# Altium schematic symbol library Schlib1.SchLib: 20 symbols
Pins are listed as number, name and electrical type; pins without a type are passive.

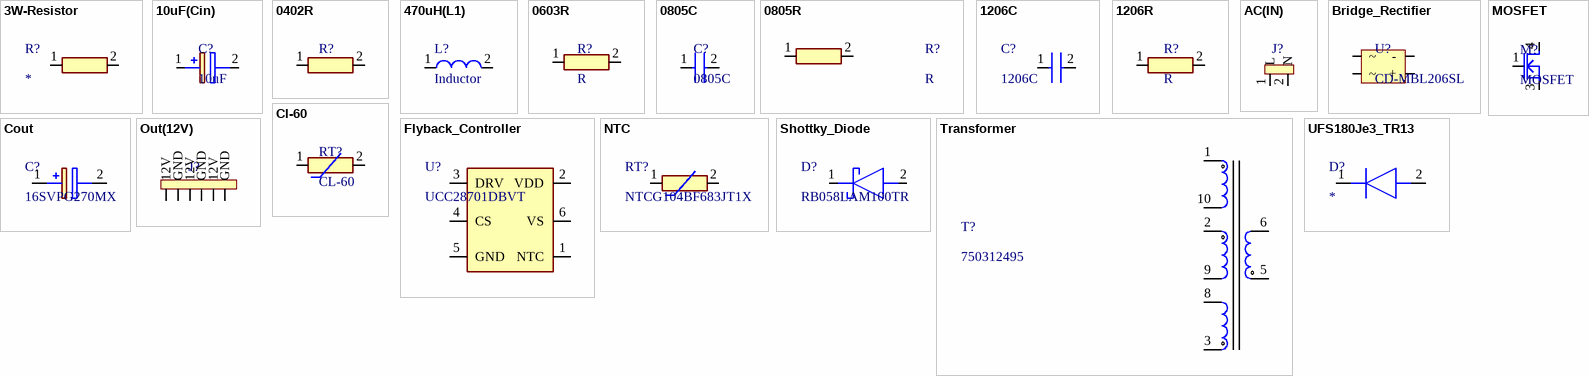
[diagram p0: symbols 3W-Resistor to UFS180Je3_TR13]

## 3W-Resistor
designator R?
Resistor; Manufacturer_Name: Vishay; Manufacturer_Part_Number: PR03000206202JAC00; Datasheet Link: https://www.vishay.com/docs/28729/pr010203.pdf; Mouser Part Number: 594-5093NW62K00J; Mouser Price/Stock: https://www.mouser.co.uk/ProductDetail/Vishay-BC-Components/PR03000206202JAC00?qs=LCMWAU1DZcxovZq7UzVsNA%3D%3D; Arrow Part Number: PR03000206202JAC00; Arrow Price/Stock: https://www.arrow.com/en/products/pr03000206202jac00/vishay
footprint 3W-Resistor
pins: 1, 2

## 10uF(Cin)
designator C?, comment 10uF
Alum. Electrolytic Cap 10µF 400V 10mm Radial WCAP-AT1H; Lifetime 10000h +105°C; Manufacturer: Wurth Electronics; Manufacturer Part Number: 860241375002; Polarity: Polar; Ripple Current: 274mA; Life (Hours): 10000Hour; Tolerance: 20%; Supplier 1: Mouser; RoHS: Yes; Category: Aluminum Electrolytic Capacitors; Stock 1: 2312; Pricing 1: 1=0.88000, 10=0.87700, 50=0.74800, 100=0.65100, 1000=0.57900, 10000=0.57900 (USD); Mount: Through Hole; Case/Package: Radial; Min Operating Temperature: -25°C; Max Operating Temperature: 105°C; Package Quantity: 500; Packaging: Tape and Reel; Capacitance: 10uF; Voltage Rating: 400V; Voltage Rating (DC): 400V; Diameter: 10mm; Height: 16mm; Lead Pitch: 0.197inch; Height - Seated (Max): 0.688inch; REACH SVHC: Unknown; RoHS Compliant: Yes; ComponentLink1URL: http://www.farnell.com/datasheets/1958429.pdf?src-supplier=Farnell; ComponentLink1Description: http://www.farnell.com/datasheets/1958429.pdf?src-supplier=Farnell; ComponentLink2URL: http://katalog.we-online.de/pbs/datasheet/860241375002.pdf?src-supplier=Digi-Key; ComponentLink2Description: http://katalog.we-online.de/pbs/datasheet/860241375002.pdf?src-supplier=Digi-Key; ComponentLink3URL: http://www.farnell.com/datasheets/1958429.pdf?src-supplier=Element14; ComponentLink3Description: http://www.farnell.com/datasheets/1958429.pdf?src-supplier=Element14
footprint 10uF
pins: 1 +, 2 -

## 0402R
designator R?, comment R  (value not drawn)
footprint 0402R
pins: 1, 2

## 470uH(L1)
designator L?, comment Inductor
Inductor Power Shielded Wirewound 470uH 10% 1KHz 18Q-Factor Ferrite 0.18A 3.3Ohm DCR T/R; Manufacturer: Bourns; Manufacturer Part Number: SRR0604-471KL; Saturation Current: 220mA; Self Resonant Frequency: 6.5MHz; Q Factor: 18; Current Rating: 180mA; Current: 2.2A; DC Resistance (DCR): 3.3R; Supplier 1: Mouser; RoHS: Yes; Category: Fixed Inductors; Stock 1: 1611; Pricing 1: 1=0.93000, 10=0.67800, 50=0.67800, 100=0.62800, 1000=0.41200, 10000=0.38700 (USD); Mount: Surface Mount; Case/Package: Nonstandard; Core Material: Ferrite; Min Operating Temperature: -40°C; Max Operating Temperature: 125°C; Tolerance: 10%; Shielding: Shielded; Packaging: Tape and Reel; Package Quantity: 1000; Inductance: 470uH; Resistor Type: Wirewound; Test Frequency: 1kHz; Max DC Current: 180mA; Termination: SMD/SMT; DC Current: 180mA; Length: 6.5mm; Width: 6.5mm; Height: 4.8mm; Height - Seated (Max): 0.189inch; Depth: 6.7mm; Radiation Hardening: No; Military Standard: Not; ComponentLink1URL: https://datasheet.ciiva.com/29348/447222-da-01-en-induktivitaet-srr0604-471kl-470uh-0-22a-29348188.pdf?src-supplier=Conrad; ComponentLink1Description: https://datasheet.ciiva.com/29348/447222-da-01-en-induktivitaet-srr0604-471kl-470uh-0-22a-29348188.pdf?src-supplier=Conrad; ComponentLink2URL: https://datasheet.ciiva.com/6691/srr0604-6691703.pdf?src-supplier=Digi-Key; ComponentLink2Description: https://datasheet.ciiva.com/6691/srr0604-6691703.pdf?src-supplier=Digi-Key; ComponentLink3URL: https://datasheet.ciiva.com/6691/srr0604-6691705.pdf?src-supplier=Digi-Key; ComponentLink3Description: https://datasheet.ciiva.com/6691/srr0604-6691705.pdf?src-supplier=Digi-Key; ComponentLink4URL: https://datasheet.ciiva.com/6691/srr0604-6691708.pdf?src-supplier=Digi-Key; ComponentLink4Description: https://datasheet.ciiva.com/6691/srr0604-6691708.pdf?src-supplier=Digi-Key; ComponentLink5URL: https://datasheet.ciiva.com/8517/srr0604-8517198.pdf?src-supplier=Avnet; ComponentLink5Description: https://datasheet.ciiva.com/8517/srr0604-8517198.pdf?src-supplier=Avnet; ComponentLink6URL: https://datasheet.ciiva.com/31843/srr0604-31843470.pdf?src-supplier=Onlinecomponents.com; ComponentLink6Description: https://datasheet.ciiva.com/31843/srr0604-31843470.pdf?src-supplier=Onlinecomponents.com
footprint INDP125125X600N
pins: 1, 2

## 0603R
designator R?, comment R
footprint 0603R
pins: 1, 2

## 0805C
designator C?
footprint 0805C
pins: 1, 2

## 0805R
designator R?, comment R
footprint 0805R
pins: 1, 2

## 1206C
designator C?
Cap Ceramic 1uF 100V X7R 10% SMD 1206 125°C Embossed T/R; Manufacturer: Kyocera AVX; Manufacturer Part Number: 12061C105KAT4A; Supplier 1: Mouser; RoHS: Yes; Category: Ceramic Capacitors; Stock 1: 79379; Pricing 1: 1=0.49000, 10=0.23600, 50=0.23600, 100=0.20300, 1000=0.12800, 10000=0.10400 (USD); Case/Package: 1206; Dielectric: X7R; Voltage Rating (DC): 100V; Capacitance: 1uF; Tolerance: 10%; RoHS Compliant: Yes; ComponentLink1URL: http://datasheets.avx.com/X7RDielectric.pdf?src-supplier=Digi-Key; ComponentLink1Description: http://datasheets.avx.com/X7RDielectric.pdf?src-supplier=Digi-Key
footprint 1206C
pins: 1, 2

## 1206R
designator R?, comment R
footprint 1206R
pins: 1, 2

## AC(IN)
designator J?  (value not drawn)
footprint AC(IN)
pins: 1 L, 2 N

## Bridge_Rectifier
designator U?, comment CD-MBL206SL
DIO BR VRRM 600V 2A MBLS / Tape & Reel - 13" reel RoHS Compliant: Yes; Manufacturer: Bourns; Supplier 1: Mouser; Manufacturer Part Number: CD-MBL206SL; RoHS: Yes; Stock 1: 14176; Pricing 1: 1=0.45000, 10=0.39200, 50=0.39200, 100=0.29300, 1000=0.17800, 10000=0.13700 (USD); Mount: Surface Mount; Min Operating Temperature: -55°C; Max Operating Temperature: 175°C; Packaging: Cut Tape; Average Rectified Current: 2A; RoHS Compliant: Yes; ComponentLink1URL: http://www.farnell.com/datasheets/2176055.pdf?src-supplier=Farnell; ComponentLink1Description: http://www.farnell.com/datasheets/2176055.pdf?src-supplier=Farnell; ComponentLink2URL: http://www.farnell.com/datasheets/2176055.pdf?src-supplier=Element14; ComponentLink2Description: http://www.farnell.com/datasheets/2176055.pdf?src-supplier=Element14; ComponentLink3URL: https://www.bourns.com/docs/Product-Datasheets/cd-mbl2xxsl.pdf?src-supplier=Digi-Key; ComponentLink3Description: https://www.bourns.com/docs/Product-Datasheets/cd-mbl2xxsl.pdf?src-supplier=Digi-Key
footprint CD-MBL210S_1
pins: 1 +, 2 ~, 3 ~, 4 -

## Cl-60
designator RT?, comment CL-60
CL Series 10 Ohm ± 25 % 5 A Radial Uninsulated Leads Thermistor Disc; Manufacturer: Amphenol; Supplier 1: Mouser; Manufacturer Part Number: CL-60; RoHS: No; Category: Uncategorized; Stock 1: 5231; Pricing 1: 1=2.16000, 10=1.95000, 50=1.95000, 100=1.33000, 1000=0.97800, 10000=0.85800 (USD); ComponentLink1URL: https://datasheet.ciiva.com/29855/aas-920-325d-thermometrics-ntc-inrush-031814-web-29855691.pdf?src-supplier=Digi-Key; ComponentLink1Description: https://datasheet.ciiva.com/29855/aas-920-325d-thermometrics-ntc-inrush-031814-web-29855691.pdf?src-supplier=Digi-Key; ComponentLink2URL: https://datasheet.ciiva.com/31455/629282-31455967.pdf?src-supplier=Element14; ComponentLink2Description: https://datasheet.ciiva.com/31455/629282-31455967.pdf?src-supplier=Element14; ComponentLink3URL: https://datasheet.ciiva.com/46652/70181314-46652413.pdf?src-supplier=Allied+Electronics; ComponentLink3Description: https://datasheet.ciiva.com/46652/70181314-46652413.pdf?src-supplier=Allied+Electronics
footprint CL-60
pins: 1, 2

## Cout
designator C?, comment 16SVPG270MX
Capacitor Polarised; Manufacturer_Name: Panasonic; Datasheet Link: http://industrial.panasonic.com/cdbs/www-data/pdf/AAB8000/AAB8000C175.pdf; Height: 8mm; Manufacturer_Part_Number: 16SVPG270MX; Mouser Part Number: 667-16SVPG270MX; Mouser Price/Stock: https://www.mouser.co.uk/ProductDetail/Panasonic/16SVPG270MX?qs=XFmntM7Yc9fZM%2FbqBr2Fvw%3D%3D; Arrow Part Number: 16SVPG270MX; Arrow Price/Stock: https://www.arrow.com/en/products/16svpg270mx/panasonic?region=nac
footprint Cout
pins: 1 +, 2 -

## Flyback_Controller
designator U?, comment UCC28701DBVT
Integrated Circuit; Manufacturer_Name: Texas Instruments; Datasheet Link: http://www.ti.com/lit/gpn/ucc28701; Height: 1.45mm; Manufacturer_Part_Number: UCC28701DBVT; Mouser Part Number: 595-UCC28701DBVT; Mouser Price/Stock: https://www.mouser.co.uk/ProductDetail/Texas-Instruments/UCC28701DBVT?qs=rg6Iqu58vpU9cO7MIDHsMA%3D%3D; Arrow Part Number: UCC28701DBVT; Arrow Price/Stock: https://www.arrow.com/en/products/ucc28701dbvt/texas-instruments
footprint SOT95P280X145-6N
pins: 1 NTC, 2 VDD, 3 DRV, 4 CS, 5 GND, 6 VS

## MOSFET
designator M?
Single N-Channel 800 V 900 mOhm 15 nC CoolMOS Power Mosfet - DPAK; Manufacturer: Infineon; Manufacturer Part Number: IPD80R900P7ATMA1; Max Dual Supply Voltage: 800V; Continuous Drain Current (ID): 6A; Rds On Max: 900mR; Input Capacitance: 350pF; Max Power Dissipation: 45W; Frequency: 16MHz; Frequency Stability: 0.15%; Frequency Tolerance: 0.5%; Capacitance: 15pF; Impedance: 40R; Supplier 1: Mouser; RoHS: Yes; Category: MOSFETs; Stock 1: 130; Pricing 1: 1=1.85000, 10=1.67000, 50=1.67000, 100=1.30000, 1000=0.94000, 10000=0.93900 (USD); Mount: Surface Mount; Case/Package: TO-252-3; Min Operating Temperature: -55°C; Max Operating Temperature: 150°C; Drain to Source Voltage (Vdss): 800V; Resistor Type: Ceramic; Packaging: Cut Tape; Lead Free: Contains Lead; Halogen Free: Halogen Free; RoHS Compliant: Yes; ComponentLink1URL: https://www.infineon.com/dgdl/Infineon-IPD80R900P7-DS-v02_00-EN.pdf?fileId=5546d4625b3ca4ec015b4287da753ee9&src-supplier=Digi-Key; ComponentLink1Description: https://www.infineon.com/dgdl/Infineon-IPD80R900P7-DS-v02_00-EN.pdf?fileId=5546d4625b3ca4ec015b4287da753ee9&src-supplier=Digi-Key
footprint MOSFET (D-PAK, 3-Pads, Body 6.21x6.73mm (max), IPC High Density)
pins: 1 G, 3 S, 4 D

## NTC
designator RT?, comment NTCG104BF683JT1X
Thermistor; Manufacturer_Name: TDK; Datasheet Link: https://product.tdk.com/system/files/dam/doc/product/sensor/ntc/chip-ntc-thermistor/catalog/tpd_commercial_ntc-thermistor_ntcg_en.pdf; Height: 0.55mm; Manufacturer_Part_Number: NTCG104BF683JT1X; Mouser Part Number: 810-NTCG104BF683JT; Mouser Price/Stock: https://www.mouser.com/Search/Refine.aspx?Keyword=810-NTCG104BF683JT
footprint NTC
pins: 1, 2

## Out(12V)
designator J?, comment 12V  (value not drawn)
footprint 1x6P
pins: 1 GND, 2 12V, 3 GND, 4 12V, 5 GND, 6 12V

## Shottky_Diode
designator D?, comment RB058LAM100TR
Schottky Diode; Manufacturer_Name: ROHM Semiconductor; Datasheet Link: https://fscdn.rohm.com/en/products/databook/datasheet/discrete/diode/schottky_barrier/rb058lam100tr-e.pdf; Height: 1.05mm; Manufacturer_Part_Number: RB058LAM100TR; Mouser Part Number: 755-RB058LAM100TR; Mouser Price/Stock: https://www.mouser.co.uk/ProductDetail/ROHM-Semiconductor/RB058LAM100TR?qs=HXFqYaX1Q2xzCgpEm4IcAg%3D%3D
footprint Shottky_Diode
pins: 1 K, 2 A

## Transformer
designator T?, comment 750312495
Transformer; Manufacturer_Name: Wurth Elektronik; Datasheet Link: https://www.we-online.com/catalog/datasheet/750312495.pdf; Height: 17.53mm; Manufacturer_Part_Number: 750312495; Mouser Part Number: 710-750312495; Mouser Price/Stock: https://www.mouser.co.uk/ProductDetail/Wurth-Elektronik/750312495?qs=qSfuJ%252Bfl%2Fd7M%2FwhZasVw9g%3D%3D
footprint 750312495
pins: 1, 2, 3, 5, 6, 8, 9, 10

## UFS180Je3_TR13
designator D?
Diode; Manufacturer_Name: Microsemi Corporation; Manufacturer_Part_Number: UFS180Je3/TR13; Datasheet Link: https://media.digikey.com/pdf/Data%20Sheets/Microsemi%20PDFs/UFS160J-UFS180J.pdf; Height: 3.3mm; Mouser Part Number: 494-UFS180JE3/TR13; Mouser Price/Stock: https://www.mouser.co.uk/ProductDetail/Microchip-Microsemi/UFS180Je3-TR13?qs=pU29NIZ4ZwBQwIY5BrOkmA%3D%3D; Arrow Part Number: UFS180JE3/TR13; Arrow Price/Stock: https://www.arrow.com/en/products/ufs180je3tr13/microsemi
footprint UFS180Je3_TR13
pins: 1 K, 2 A